# Altium footprint library LCD2004_I2C.PcbLib: 1 footprints
Each footprint in its own frame and in the unit in brackets; x right, y up, seen from the top. Pads: shape width x height; smd on the part's side, far side on the other; paste and mask are expansions set on the pad; w line width, h text height; cw(c..) or ccw(c..) is an arc to the next point about the centre after c.
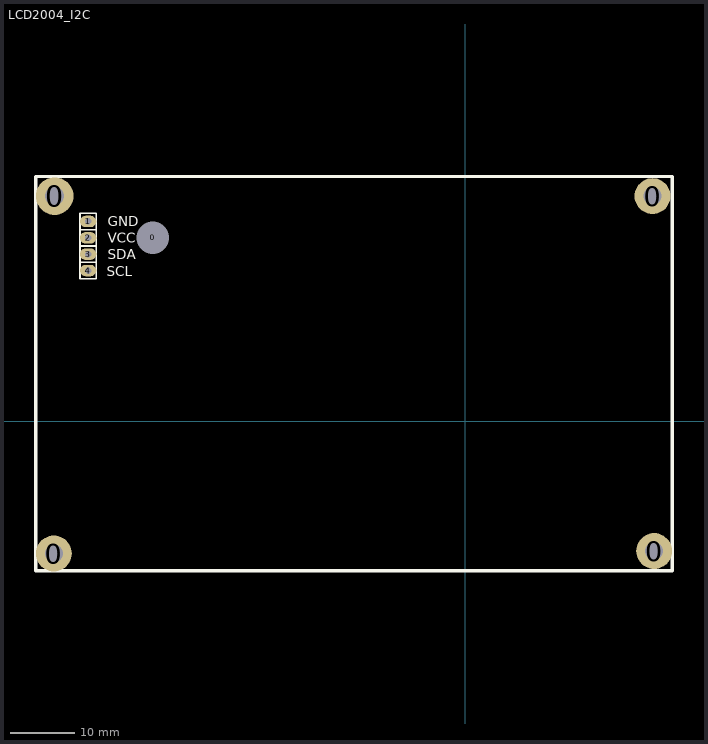
[diagram p0: the footprint, top view; thin cyan lines are the x and y axes]

## LCD2004_I2C [mil]
pads (9):
  round 220 hole 110: 0(-2515,-810) 0(1145,1375) 0(1155,-795)
  round 230 hole 115: 0(-2510,1375)
  round 60 hole 196.85 unplated: 0(-1910,1120)
  oval 100x70 hole 40: 1(-2305,1220) 2(-2305,1120) 3(-2305,1020) 4(-2305,920)
Top Overlay:
  lines w10: -2355,970 -2255,970 ; -2355,970 -2355,870 -2255,870 -2255,970 ; -2355,970 -2255,970 ; -2355,970 -2355,1070 ; -2355,1070 -2255,1070 ; -2355,1070 -2355,1170 ; -2355,1070 -2255,1070 ; -2355,1170 -2255,1170 ; -2355,1170 -2255,1170 ; -2355,1170 -2355,1270 -2255,1270 -2255,1170 ; -2255,970 -2255,1070 ; -2255,1070 -2255,1170
  lines w20: -2625,-915 1265,-915 1265,1495 -2625,1495 -2625,-915
  text "SCL" at -2190,885 h60
  text "SDA" at -2185,990 h60
  text "VCC" at -2185,1090 h60
  text "GND" at -2185,1190 h60
Bottom Overlay:
  text "GND" at -2015,1190 h60
  text "VCC" at -2015,1085 h60
  text "SDA" at -2020,990 h60
  text "SCL" at -2030,885 h60
Drill Drawing:
  circle w10: c-1910,1120 r88.6
3D body "2004+I2C module.STEP": height 913.38, standoff 139.76, extent -2610,-902.2 1248.27,1460